# EAGLE library part ADXL335 (library IC & Transistor)
3-Axis ± 3g Accelerometer
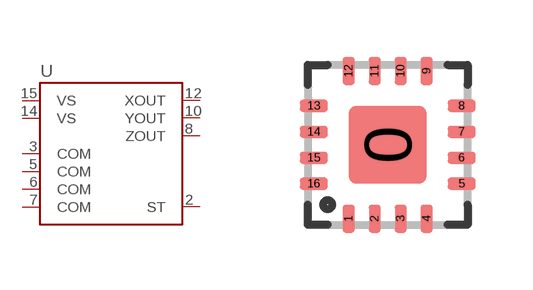
[diagram p1: symbol with the pads of LFCSP-16; footprint LFCSP-16]

Designator prefix U

## ADXL335_(LFCSP-16) (CYTRON-PC: S-IC-ADXL335-LFCSP-LQ; DESC: SMD IC - 3 Axis Accelerometer; MF: Analog Devices; MPN: ADXL335BCPZ)  [LFCSP-16]
2  ST
3  COM
5  COM
6  COM
7  COM
8  ZOUT  out
10  YOUT  out
12  XOUT  out
14  VS
15  VS

## Footprint LFCSP-16 (pad centres in mm)
Lead Frame Chip Scale Package (LFCSP_LQ) 0.65mm Pitch * Need to check the orientation.
smd 1.95 x 1.95: 0 0,0
smd 0.3 x 0.7: 1 -0.975,-1.85; 2 -0.325,-1.85; 3 0.325,-1.85; 4 0.975,-1.85; 9 0.975,1.85; 10 0.325,1.85; 11 -0.325,1.85; 12 -0.975,1.85
smd 0.7 x 0.3: 5 1.85,-0.975; 6 1.85,-0.325; 7 1.85,0.325; 8 1.85,0.975; 13 -1.85,0.975; 14 -1.85,0.325; 15 -1.85,-0.325; 16 -1.85,-0.975